# Altium schematic symbol library LED.SchLib: 4 symbols
Pins are listed as number, name and electrical type; pins without a type are passive.

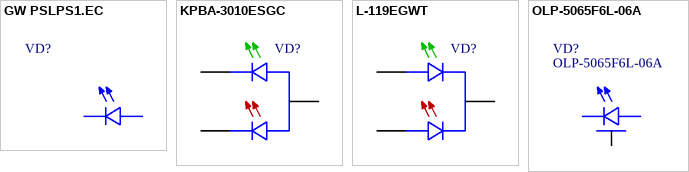
[diagram p0: symbols GW PSLPS1.EC to OLP-5065F6L-06A]

## GW PSLPS1.EC
designator VD?  (value not drawn)
White LED 1.0W 155lm 3.0V 350mA; Описание: Светодиод SMD; Аналог: *; NumberSolderPointsSMD: *; NumberSolderPointsTHT: *; Комплект: *
footprint GW PSLPS1.EC
pins: 1, 2

## KPBA-3010ESGC
designator VD?  (value not drawn)
Right-angle red/green LED; Описание: Светодиод SMD; Аналог: *; NumberSolderPointsSMD: *; NumberSolderPointsTHT: *; Комплект: *
footprint KPBA-3010ESGC
pins: 1, 2, 3

## L-119EGWT
designator VD?  (value not drawn)
Right-angle red/green LED; Описание: Светодиод красный/зеленый; Аналог: *; NumberSolderPointsSMD: *; NumberSolderPointsTHT: *; Комплект: *
footprint L-119EGWT(rightAngleVar1)
pins: 1, 2, 3

## OLP-5065F6L-06A
designator VD?
White LED 1.0W 155lm 3.0V 350mA; Описание: Светодиод SMD; Аналог: *; NumberSolderPointsSMD: *; NumberSolderPointsTHT: *; Комплект: *
footprint OLP-5065F6L-06A(manualVar1)
footprint OLP-5065F6L-06A(manualVar2)
pins: 1, 2, 3